# EAGLE library part BAXXDD0/BAXXCC0 (library mille-feuille)
Standard Fixed Output LDO Regulators are low-saturation regulators, available for output s up to 2A / 1A. ROHM has a wide output voltage range and package lineup with and without shutdown switches. This IC has a built-in over-current protection circuit that prevents the destruction of the IC due to output short circuits, a thermal shut-down circuit that protects the IC from damage due to overloading and an over-voltage protection circuit that protects the IC from surges generated in the power supply line of the IC.
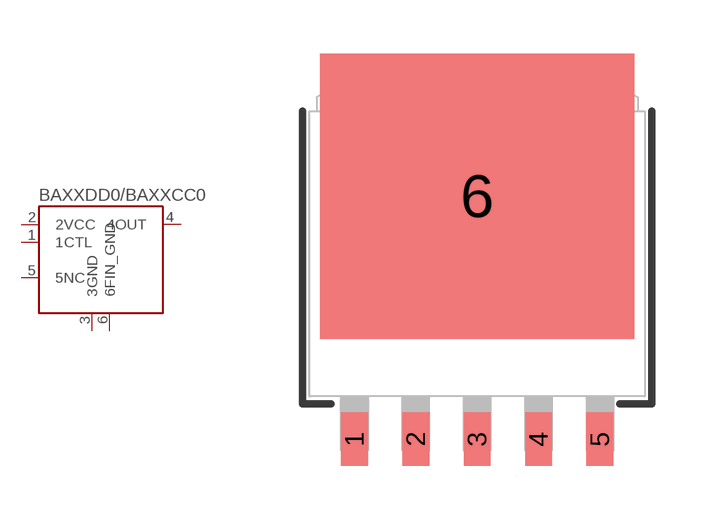
[diagram p22: symbol with the pads of HRP5; footprint HRP5]

Designator prefix U

## BAXXDD0/BAXXCC0WHFP  [HRP5]
1  1CTL
2  2VCC
3  3GND
4  4OUT
5  5NC  nc
6  6FIN_GND

## Footprint HRP5 (pad centres in mm)
smd 0.75 x 1.5: 1 -3.44,-1.2; 2 -1.72,-1.2; 3 0,-1.2; 4 1.72,-1.2; 5 3.44,-1.2
smd 8.8 x 8: 6 0,5.62